# EAGLE library part SM07B-SRSS-TB_LF__SN_ (library SM07B-SRSS-TB_LF__SN_)
Connector Header Surface Mount, Right Angle 7 position 0.039" (1.00mm) Source: Datasheet <http://www.jst-mfg.com/product/pdf/eng/eSH.pdf>
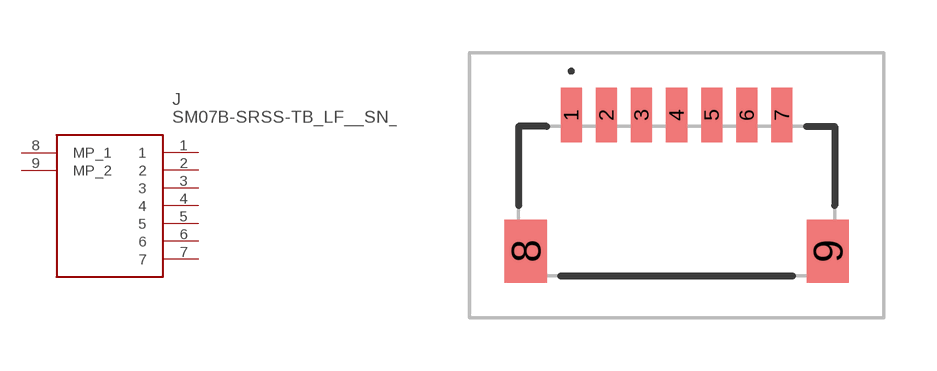
[diagram p0: symbol with the pads of SM07BSRSSTBLFSN; footprint SM07BSRSSTBLFSN]

Designator prefix J

## SM07B-SRSS-TB_LF__SN_ (Description: Connector Header Surface Mount, Right Angle 7 position 0.039" (1.00mm); Height: 2.95mm; Manufacturer_Name: JST (JAPAN SOLDERLESS TERMINALS); Manufacturer_Part_Number: SM07B-SRSS-TB(LF)(SN); Mouser_Part_Number: N/A; Mouser_Price-Stock: https://www.mouser.co.uk/ProductDetail/JST-Commercial/SM07B-SRSS-TBLFSN?qs=QpmGXVUTftFKhPFIBzZDQw%3D%3D)  [SM07BSRSSTBLFSN]
1  1
2  2
3  3
4  4
5  5
6  6
7  7
8  MP_1
9  MP_2

## Footprint SM07BSRSSTBLFSN (pad centres in mm)
SM07B-SRSS-TB(LF)(SN)-1_2025
smd 0.6 x 1.55: 1 -3,2; 2 -2,2; 3 -1,2; 4 0,2; 5 1,2; 6 2,2; 7 3,2
smd 1.2 x 1.8: 8 -4.3,-1.875; 9 4.3,-1.875